# Altium integrated library TI Data Converters Analog to Digital Converter.IntLib: 2197 symbols (part 157 of 168)
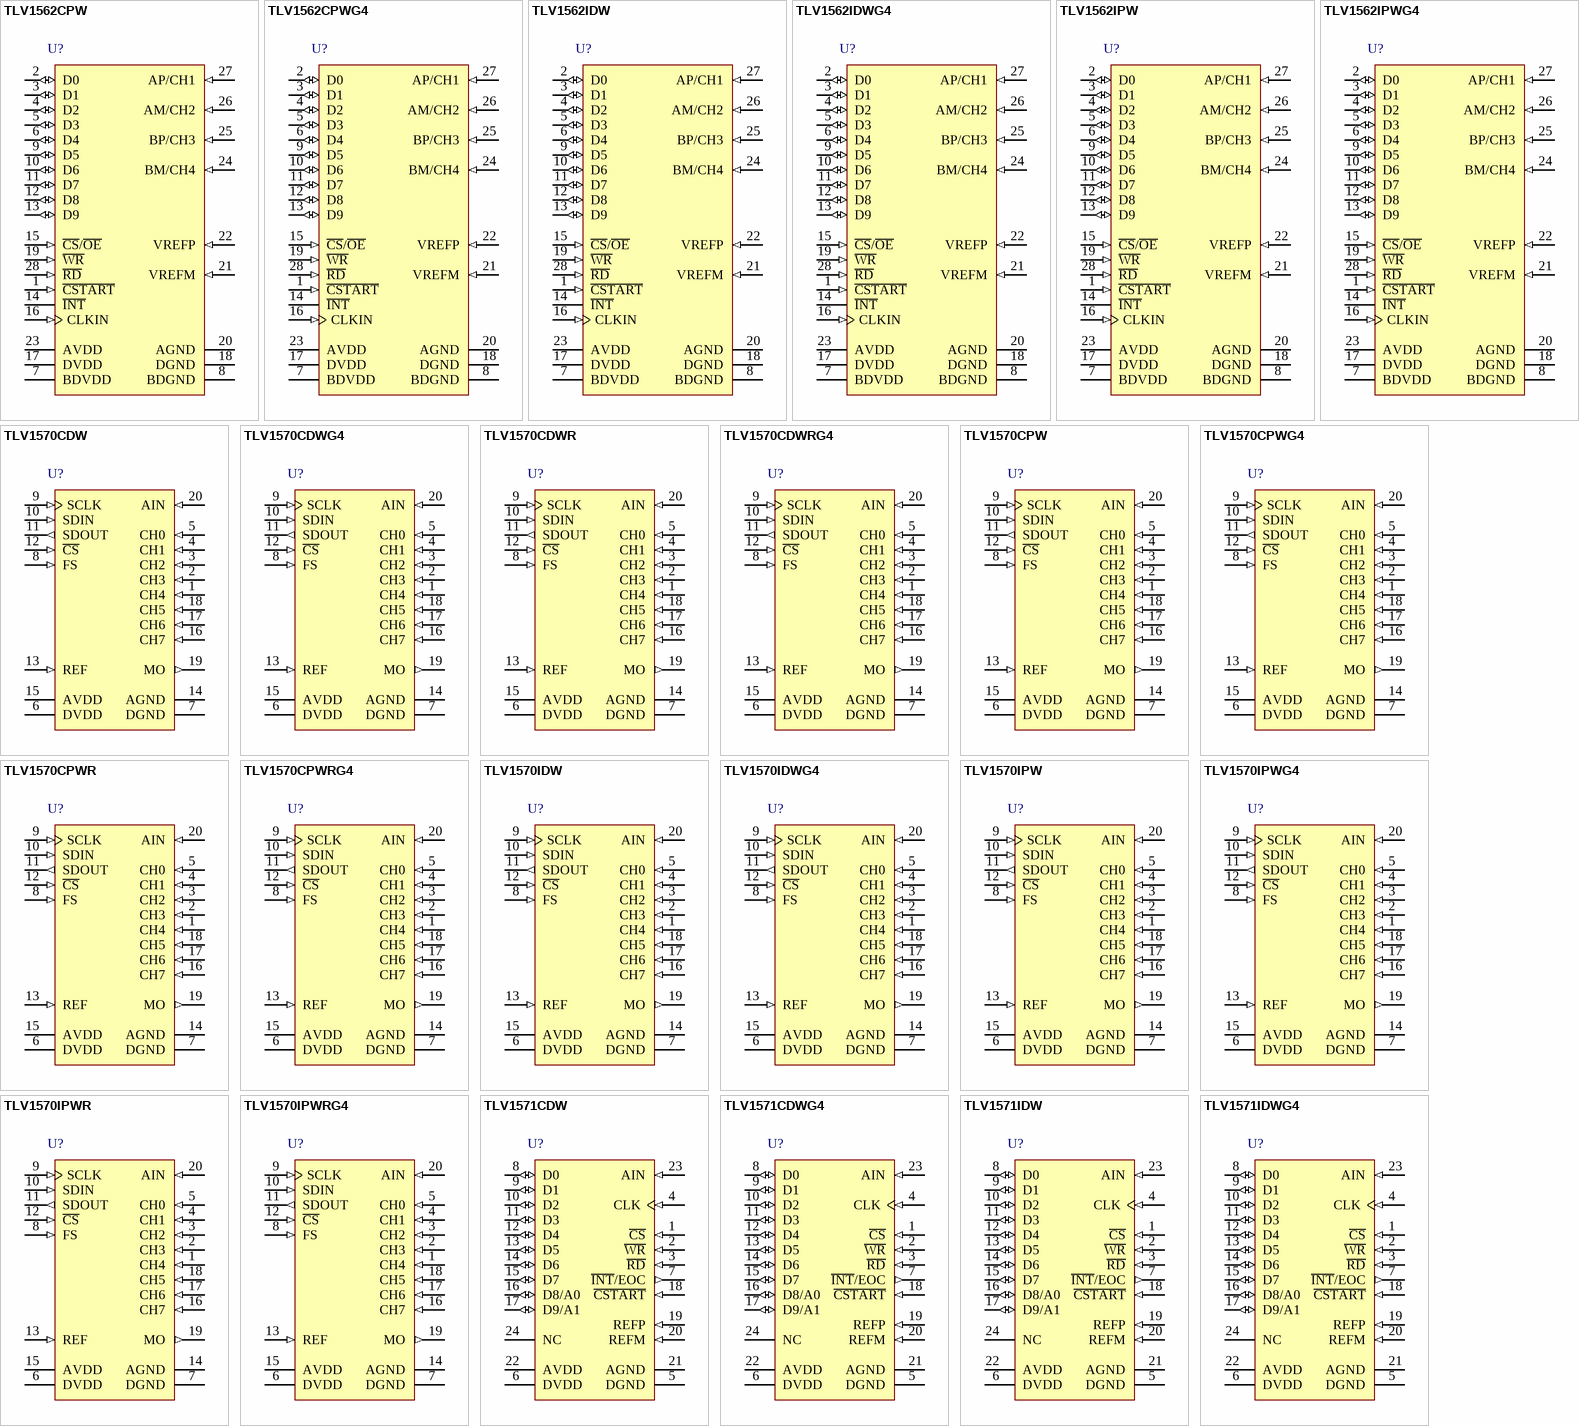
[diagram p282: symbols TLV1562CPW to TLV1571IDWG4]

## TLV1570IPWG4
designator U?
10-Bit, 1.25 MSPS ADC 8-Channel, DSP / (Q)SPI IF, Programmable Internal Reference, Auto or Software Power Down, Very Low Power, -40 to 85 degC, 20-pin SOP (PW20), Green (RoHS & no Sb/Br); Manufacturer: Texas Instruments; PartNumber: TLV1570IPWG4; # Input Channels: 8; Analog Voltage AV/DD(Max)(V): 5.5; Analog Voltage AV/DD(Min)(V): 2.7; Architecture: SAR; ENOB(Bits): 9.3; INL(Max)(+/-LSB): 1; Interface: Serial SPI; Resolution(Bits): 10; Sample Rate (max)(SPS): 1.25M; SFDR(dB): 63; SINAD(dB): 58; SNR(dB): 61; SubFamily: Precision ADC (<=10MSPS); DatasheetVersion: SLAS169B; PackageVersion: 4040064-5/G, 02/2011; PackageReference: PW20; PackageDescription: 20-Pin Plastic Small Outline, Body 6.5 x 4.4 mm, Pitch 0.65 mm; Supplier 1: Digi-Key; Supplier Part Number 1: ADS8332IPWR-ND; Supplier 2: Mouser; Supplier Part Number 2: 595-ADS8332IPWR; Digital Supply(Max)(V): 5.5; Digital Supply(Min)(V): 2.7; Eco-Plan: Green (RoHS & no Sb/Br); Mounting Technology: Surface Mount; Code_JEDEC: MO-153; ComponentLink1Description: Manufacturer URL; ComponentLink1URL: http://www.ti.com/; ComponentLink2Description: Datasheet; ComponentLink2URL: http://www.ti.com/general/docs/lit/getliterature.tsp?genericPartNumber=TLV1570&fileType=pdf; ComponentLink3Description: Package Specification; ComponentLink3URL: http://www.ti.com.cn/cn/lit/ml/mpds362/mpds362.pdf
footprint TI-PW20_N (SOP, 20-Leads, Body 6.5x4.4mm, Pitch 0.65mm, IPC Medium Density)
footprint TI-PW20_L (SOP, 20-Leads, Body 6.5x4.4mm, Pitch 0.65mm, IPC High Density)
footprint TI-PW20_M (SOP, 20-Leads, Body 6.5x4.4mm, Pitch 0.65mm, IPC Low Density)
pins: 1 CH4 (in) "Analog input channels 0 - 7", 2 CH3 (in) "Analog input channels 0 - 7", 3 CH2 (in) "Analog input channels 0 - 7", 4 CH1 (in) "Analog input channels 0 - 7", 5 CH0 (in) "Analog input channels 0 - 7", 6 DVDD (power) "Digital supply voltage, 2.7 V to 5.5 V", 7 DGND (power) "Digital ground", 8 FS (in) "Frame sync. The falling edge of the frame sync pulse from a DSP indicates the start of a serial data frame shifted out of the TLV1570. FS is pulled high when interfaced to a microcontroller.", 9 SCLK (in) "Serial clock input. SCLK synchronizes the serial data transfer and is also used for internal data conversion.", 10 SDIN (in) "Serial data input used to configure the internal control register.", 11 SDOUT (out) "Serial data output. A/D conversion results are output at SDOUT.", 12 ~{CS} (in) "Chip select. A low level signal on C\S\ enables the TLV1570. A high level signal on C\S\ disables the device and disconnects power to the TLV1570.", 13 REF (in) "Reference voltage input. The voltage applied to REF defines the input span of the TLV1570. In external reference mode, a 0.1 uF decoupling capacitor must be placed between the reference and AGND. This is not required for (See Datasheet)", 14 AGND (power) "Analog ground", 15 AVDD (power) "Analog supply voltage, 2.7 V to 5.5 V", 16 CH7 (in) "Analog input channels 0 - 7", 17 CH6 (in) "Analog input channels 0 - 7", 18 CH5 (in) "Analog input channels 0 - 7", 19 MO (out) "On-chip MUX analog output", 20 AIN (in) "ADC analog input"

## TLV1570IPWR
designator U?
10-Bit, 1.25 MSPS ADC 8-Channel, DSP / (Q)SPI IF, Programmable Internal Reference, Auto or Software Power Down, Very Low Power, -40 to 85 degC, 20-pin SOP (PW20), Green (RoHS & no Sb/Br); Manufacturer: Texas Instruments; PartNumber: TLV1570IPWR; # Input Channels: 8; Analog Voltage AV/DD(Max)(V): 5.5; Analog Voltage AV/DD(Min)(V): 2.7; Architecture: SAR; ENOB(Bits): 9.3; INL(Max)(+/-LSB): 1; Interface: Serial SPI; Resolution(Bits): 10; Sample Rate (max)(SPS): 1.25M; SFDR(dB): 63; SINAD(dB): 58; SNR(dB): 61; SubFamily: Precision ADC (<=10MSPS); DatasheetVersion: SLAS169B; PackageVersion: 4040064-5/G, 02/2011; PackageReference: PW20; PackageDescription: 20-Pin Plastic Small Outline, Body 6.5 x 4.4 mm, Pitch 0.65 mm; Supplier 1: Digi-Key; Supplier Part Number 1: ADS8332IRGER-ND; Supplier 2: Newark; Supplier Part Number 2: 63R9797; Supplier 3: Mouser; Supplier Part Number 3: 595-ADS8332IRGER; Digital Supply(Max)(V): 5.5; Digital Supply(Min)(V): 2.7; Eco-Plan: Green (RoHS & no Sb/Br); Mounting Technology: Surface Mount; Code_JEDEC: MO-153; ComponentLink1Description: Manufacturer URL; ComponentLink1URL: http://www.ti.com/; ComponentLink2Description: Datasheet; ComponentLink2URL: http://www.ti.com/general/docs/lit/getliterature.tsp?genericPartNumber=TLV1570&fileType=pdf; ComponentLink3Description: Package Specification; ComponentLink3URL: http://www.ti.com.cn/cn/lit/ml/mpds362/mpds362.pdf
footprint TI-PW20_N (SOP, 20-Leads, Body 6.5x4.4mm, Pitch 0.65mm, IPC Medium Density)
footprint TI-PW20_L (SOP, 20-Leads, Body 6.5x4.4mm, Pitch 0.65mm, IPC High Density)
footprint TI-PW20_M (SOP, 20-Leads, Body 6.5x4.4mm, Pitch 0.65mm, IPC Low Density)
pins: 1 CH4 (in) "Analog input channels 0 - 7", 2 CH3 (in) "Analog input channels 0 - 7", 3 CH2 (in) "Analog input channels 0 - 7", 4 CH1 (in) "Analog input channels 0 - 7", 5 CH0 (in) "Analog input channels 0 - 7", 6 DVDD (power) "Digital supply voltage, 2.7 V to 5.5 V", 7 DGND (power) "Digital ground", 8 FS (in) "Frame sync. The falling edge of the frame sync pulse from a DSP indicates the start of a serial data frame shifted out of the TLV1570. FS is pulled high when interfaced to a microcontroller.", 9 SCLK (in) "Serial clock input. SCLK synchronizes the serial data transfer and is also used for internal data conversion.", 10 SDIN (in) "Serial data input used to configure the internal control register.", 11 SDOUT (out) "Serial data output. A/D conversion results are output at SDOUT.", 12 ~{CS} (in) "Chip select. A low level signal on C\S\ enables the TLV1570. A high level signal on C\S\ disables the device and disconnects power to the TLV1570.", 13 REF (in) "Reference voltage input. The voltage applied to REF defines the input span of the TLV1570. In external reference mode, a 0.1 uF decoupling capacitor must be placed between the reference and AGND. This is not required for (See Datasheet)", 14 AGND (power) "Analog ground", 15 AVDD (power) "Analog supply voltage, 2.7 V to 5.5 V", 16 CH7 (in) "Analog input channels 0 - 7", 17 CH6 (in) "Analog input channels 0 - 7", 18 CH5 (in) "Analog input channels 0 - 7", 19 MO (out) "On-chip MUX analog output", 20 AIN (in) "ADC analog input"

## TLV1570IPWRG4
designator U?
10-Bit, 1.25 MSPS ADC 8-Channel, DSP / (Q)SPI IF, Programmable Internal Reference, Auto or Software Power Down, Very Low Power, -40 to 85 degC, 20-pin SOP (PW20), Green (RoHS & no Sb/Br); Manufacturer: Texas Instruments; PartNumber: TLV1570IPWRG4; # Input Channels: 8; Analog Voltage AV/DD(Max)(V): 5.5; Analog Voltage AV/DD(Min)(V): 2.7; Architecture: SAR; ENOB(Bits): 9.3; INL(Max)(+/-LSB): 1; Interface: Serial SPI; Resolution(Bits): 10; Sample Rate (max)(SPS): 1.25M; SFDR(dB): 63; SINAD(dB): 58; SNR(dB): 61; SubFamily: Precision ADC (<=10MSPS); DatasheetVersion: SLAS169B; PackageVersion: 4040064-5/G, 02/2011; PackageReference: PW20; PackageDescription: 20-Pin Plastic Small Outline, Body 6.5 x 4.4 mm, Pitch 0.65 mm; Supplier 1: Digi-Key; Supplier Part Number 1: 296-25652-2-ND; Supplier 2: Digi-Key; Supplier Part Number 2: 296-25652-1-ND; Supplier 3: Digi-Key; Supplier Part Number 3: 296-25652-6-ND; Supplier 4: Newark; Supplier Part Number 4: 63R9798; Supplier 5: Mouser; Supplier Part Number 5: 595-ADS8332IRGET; Digital Supply(Max)(V): 5.5; Digital Supply(Min)(V): 2.7; Eco-Plan: Green (RoHS & no Sb/Br); Mounting Technology: Surface Mount; Code_JEDEC: MO-153; ComponentLink1Description: Manufacturer URL; ComponentLink1URL: http://www.ti.com/; ComponentLink2Description: Datasheet; ComponentLink2URL: http://www.ti.com/general/docs/lit/getliterature.tsp?genericPartNumber=TLV1570&fileType=pdf; ComponentLink3Description: Package Specification; ComponentLink3URL: http://www.ti.com.cn/cn/lit/ml/mpds362/mpds362.pdf
footprint TI-PW20_N (SOP, 20-Leads, Body 6.5x4.4mm, Pitch 0.65mm, IPC Medium Density)
footprint TI-PW20_L (SOP, 20-Leads, Body 6.5x4.4mm, Pitch 0.65mm, IPC High Density)
footprint TI-PW20_M (SOP, 20-Leads, Body 6.5x4.4mm, Pitch 0.65mm, IPC Low Density)
pins: 1 CH4 (in) "Analog input channels 0 - 7", 2 CH3 (in) "Analog input channels 0 - 7", 3 CH2 (in) "Analog input channels 0 - 7", 4 CH1 (in) "Analog input channels 0 - 7", 5 CH0 (in) "Analog input channels 0 - 7", 6 DVDD (power) "Digital supply voltage, 2.7 V to 5.5 V", 7 DGND (power) "Digital ground", 8 FS (in) "Frame sync. The falling edge of the frame sync pulse from a DSP indicates the start of a serial data frame shifted out of the TLV1570. FS is pulled high when interfaced to a microcontroller.", 9 SCLK (in) "Serial clock input. SCLK synchronizes the serial data transfer and is also used for internal data conversion.", 10 SDIN (in) "Serial data input used to configure the internal control register.", 11 SDOUT (out) "Serial data output. A/D conversion results are output at SDOUT.", 12 ~{CS} (in) "Chip select. A low level signal on C\S\ enables the TLV1570. A high level signal on C\S\ disables the device and disconnects power to the TLV1570.", 13 REF (in) "Reference voltage input. The voltage applied to REF defines the input span of the TLV1570. In external reference mode, a 0.1 uF decoupling capacitor must be placed between the reference and AGND. This is not required for (See Datasheet)", 14 AGND (power) "Analog ground", 15 AVDD (power) "Analog supply voltage, 2.7 V to 5.5 V", 16 CH7 (in) "Analog input channels 0 - 7", 17 CH6 (in) "Analog input channels 0 - 7", 18 CH5 (in) "Analog input channels 0 - 7", 19 MO (out) "On-chip MUX analog output", 20 AIN (in) "ADC analog input"

## TLV1571CDW
designator U?
1-Channel 10-Bit 1.25 MSPS ADC, 8-Channel Input Multiplexer, 0 to 70 degC, 24-pin SOIC (DW24), Green (RoHS & no Sb/Br); Manufacturer: Texas Instruments; PartNumber: TLV1571CDW; # Input Channels: 1; Analog Voltage AV/DD(Max)(V): 5.5; Analog Voltage AV/DD(Min)(V): 2.7; Architecture: SAR; ENOB(Bits): 9.3; Interface: Parallel CMOS; Resolution(Bits): 10; Sample Rate (max)(SPS): 1.25M; SFDR(dB): 63; SINAD(dB): 60; SubFamily: Precision ADC (<=10MSPS); DatasheetVersion: SLAS170D; PackageVersion: 4040000-5/G, 01/2011; PackageReference: DW24; PackageDescription: 24-Pin Plastic Small Outline, Body 15.4 x 7.5 mm, Pitch 1.27 mm; Supplier 1: Digi-Key; Supplier Part Number 1: 296-25632-2-ND; Supplier 2: Digi-Key; Supplier Part Number 2: 296-25632-1-ND; Supplier 3: Digi-Key; Supplier Part Number 3: 296-25632-6-ND; Supplier 4: Newark; Supplier Part Number 4: 63R9774; Supplier 5: Mouser; Supplier Part Number 5: 595-ADS1258IPHPREP; Digital Supply(Max)(V): 5.5; Digital Supply(Min)(V): 2.7; Eco-Plan: Green (RoHS & no Sb/Br); INL(Max)(+/-LSB): 1; SNR(dB): 60; Mounting Technology: Surface Mount; Code_JEDEC: MS-013; ComponentLink1Description: Manufacturer URL; ComponentLink1URL: http://www.ti.com/; ComponentLink2Description: Datasheet; ComponentLink2URL: http://www.ti.com/general/docs/lit/getliterature.tsp?genericPartNumber=TLV1571&fileType=pdf; ComponentLink3Description: Package Specification; ComponentLink3URL: http://www.ti.com/litv/pdf/mpds174a
footprint TI-DW24_N (SOIC, 24-Leads, Body 15.4x7.5mm, Pitch 1.27mm, IPC Medium Density)
footprint TI-DW24_L (SOIC, 24-Leads, Body 15.4x7.5mm, Pitch 1.27mm, IPC High Density)
footprint TI-DW24_M (SOIC, 24-Leads, Body 15.4x7.5mm, Pitch 1.27mm, IPC Low Density)
pins: 1 ~{CS} (in) "Chip select. A logic low on C\S\ enables the TLV1571/TLV1578.", 2 ~{WR} (in) "Write data. A rising edge on the W\R\ latches in configuration data when C\S\ is low. When using software conversion start, a rising edge on W\R\ also initiates an internal sampling start pulse. When W\R\ is tied to ground, (See Datasheet)", 3 ~{RD} (in) "Read data. A falling edge on R\D\ enables a read operation on the data bus when C\S\ is low.", 4 CLK (in) "External clock input", 5 DGND (power) "Digital ground", 6 DVDD (power) "Digital supply voltage, 2.7 V to 5.5 V", 7 ~{INT}/EOC (out) "End-of-conversion/interrupt", 8 D0 (io) "Bidirectional 3-state data bus", 9 D1 (io) "Bidirectional 3-state data bus", 10 D2 (io) "Bidirectional 3-state data bus", 11 D3 (io) "Bidirectional 3-state data bus", 12 D4 (io) "Bidirectional 3-state data bus", 13 D5 (io) "Bidirectional 3-state data bus", 14 D6 (io) "Bidirectional 3-state data bus", 15 D7 (io) "Bidirectional 3-state data bus", 16 D8/A0 (io) "Bidirectional 3-state data bus. D8/A0 along with D9/A1 is used as address lines to access CR0 and CR1 for initialization.", 17 D9/A1 (io) "Bidirectional 3-state data bus. D9/A1 along with D8/A0 is used as address lines to access CR0 and CR1 for initialization.", 18 ~{CSTART} (in) "Hardware sample and conversion start input. The falling edge of C\S\T\A\R\T\ starts sampling and the rising edge of C\S\T\A\R\T\ starts conversion.", 19 REFP (in) "Upper reference voltage (nominally AVDD). The maximum input voltage range is determined by the difference between the voltage applied to REFP and REFM.", 20 REFM (in) "Lower reference voltage (nominally ground). REFM must be supplied or REFM pin must be grounded.", 21 AGND (power) "Analog ground", 22 AVDD (power) "Analog supply voltage, 2.7 V to 5.5 V", 23 AIN (in) "ADC analog input (used as single analog input channel for TLV1571)", 24 NC "Not connected"

## TLV1571CDWG4
designator U?
1-Channel 10-Bit 1.25 MSPS ADC, 8-Channel Input Multiplexer, 0 to 70 degC, 24-pin SOIC (DW24), Green (RoHS & no Sb/Br); Manufacturer: Texas Instruments; PartNumber: TLV1571CDWG4; # Input Channels: 1; Analog Voltage AV/DD(Max)(V): 5.5; Analog Voltage AV/DD(Min)(V): 2.7; Architecture: SAR; ENOB(Bits): 9.3; Interface: Parallel CMOS; Resolution(Bits): 10; Sample Rate (max)(SPS): 1.25M; SFDR(dB): 63; SINAD(dB): 60; SubFamily: Precision ADC (<=10MSPS); DatasheetVersion: SLAS170D; PackageVersion: 4040000-5/G, 01/2011; PackageReference: DW24; PackageDescription: 24-Pin Plastic Small Outline, Body 15.4 x 7.5 mm, Pitch 1.27 mm; Supplier 1: Digi-Key; Supplier Part Number 1: ADS1258IPHPREPG4-ND; Supplier 2: Mouser; Supplier Part Number 2: 595-ADS1258IPHPREPG4; Digital Supply(Max)(V): 5.5; Digital Supply(Min)(V): 2.7; Eco-Plan: Green (RoHS & no Sb/Br); INL(Max)(+/-LSB): 1; SNR(dB): 60; Mounting Technology: Surface Mount; Code_JEDEC: MS-013; ComponentLink1Description: Manufacturer URL; ComponentLink1URL: http://www.ti.com/; ComponentLink2Description: Datasheet; ComponentLink2URL: http://www.ti.com/general/docs/lit/getliterature.tsp?genericPartNumber=TLV1571&fileType=pdf; ComponentLink3Description: Package Specification; ComponentLink3URL: http://www.ti.com/litv/pdf/mpds174a
footprint TI-DW24_N (SOIC, 24-Leads, Body 15.4x7.5mm, Pitch 1.27mm, IPC Medium Density)
footprint TI-DW24_L (SOIC, 24-Leads, Body 15.4x7.5mm, Pitch 1.27mm, IPC High Density)
footprint TI-DW24_M (SOIC, 24-Leads, Body 15.4x7.5mm, Pitch 1.27mm, IPC Low Density)
pins: 1 ~{CS} (in) "Chip select. A logic low on C\S\ enables the TLV1571/TLV1578.", 2 ~{WR} (in) "Write data. A rising edge on the W\R\ latches in configuration data when C\S\ is low. When using software conversion start, a rising edge on W\R\ also initiates an internal sampling start pulse. When W\R\ is tied to ground, (See Datasheet)", 3 ~{RD} (in) "Read data. A falling edge on R\D\ enables a read operation on the data bus when C\S\ is low.", 4 CLK (in) "External clock input", 5 DGND (power) "Digital ground", 6 DVDD (power) "Digital supply voltage, 2.7 V to 5.5 V", 7 ~{INT}/EOC (out) "End-of-conversion/interrupt", 8 D0 (io) "Bidirectional 3-state data bus", 9 D1 (io) "Bidirectional 3-state data bus", 10 D2 (io) "Bidirectional 3-state data bus", 11 D3 (io) "Bidirectional 3-state data bus", 12 D4 (io) "Bidirectional 3-state data bus", 13 D5 (io) "Bidirectional 3-state data bus", 14 D6 (io) "Bidirectional 3-state data bus", 15 D7 (io) "Bidirectional 3-state data bus", 16 D8/A0 (io) "Bidirectional 3-state data bus. D8/A0 along with D9/A1 is used as address lines to access CR0 and CR1 for initialization.", 17 D9/A1 (io) "Bidirectional 3-state data bus. D9/A1 along with D8/A0 is used as address lines to access CR0 and CR1 for initialization.", 18 ~{CSTART} (in) "Hardware sample and conversion start input. The falling edge of C\S\T\A\R\T\ starts sampling and the rising edge of C\S\T\A\R\T\ starts conversion.", 19 REFP (in) "Upper reference voltage (nominally AVDD). The maximum input voltage range is determined by the difference between the voltage applied to REFP and REFM.", 20 REFM (in) "Lower reference voltage (nominally ground). REFM must be supplied or REFM pin must be grounded.", 21 AGND (power) "Analog ground", 22 AVDD (power) "Analog supply voltage, 2.7 V to 5.5 V", 23 AIN (in) "ADC analog input (used as single analog input channel for TLV1571)", 24 NC "Not connected"

## TLV1571IDW
designator U?
1-Channel 10-Bit 1.25 MSPS ADC, 8-Channel Input Multiplexer, -40 to 85 degC, 24-pin SOIC (DW24), Green (RoHS & no Sb/Br); Manufacturer: Texas Instruments; PartNumber: TLV1571IDW; # Input Channels: 1; Analog Voltage AV/DD(Max)(V): 5.5; Analog Voltage AV/DD(Min)(V): 2.7; Architecture: SAR; ENOB(Bits): 9.3; Interface: Parallel CMOS; Resolution(Bits): 10; Sample Rate (max)(SPS): 1.25M; SFDR(dB): 63; SINAD(dB): 60; SubFamily: Precision ADC (<=10MSPS); DatasheetVersion: SLAS170D; PackageVersion: 4040000-5/G, 01/2011; PackageReference: DW24; PackageDescription: 24-Pin Plastic Small Outline, Body 15.4 x 7.5 mm, Pitch 1.27 mm; Supplier 1: Digi-Key; Supplier Part Number 1: 296-25633-2-ND; Supplier 2: Digi-Key; Supplier Part Number 2: 296-25633-1-ND; Supplier 3: Digi-Key; Supplier Part Number 3: 296-25633-6-ND; Supplier 4: Mouser; Supplier Part Number 4: 595-ADS1258MPHPTEP; Digital Supply(Max)(V): 5.5; Digital Supply(Min)(V): 2.7; Eco-Plan: Green (RoHS & no Sb/Br); INL(Max)(+/-LSB): 1; SNR(dB): 60; Mounting Technology: Surface Mount; Code_JEDEC: MS-013; ComponentLink1Description: Manufacturer URL; ComponentLink1URL: http://www.ti.com/; ComponentLink2Description: Datasheet; ComponentLink2URL: http://www.ti.com/general/docs/lit/getliterature.tsp?genericPartNumber=TLV1571&fileType=pdf; ComponentLink3Description: Package Specification; ComponentLink3URL: http://www.ti.com/litv/pdf/mpds174a
footprint TI-DW24_N (SOIC, 24-Leads, Body 15.4x7.5mm, Pitch 1.27mm, IPC Medium Density)
footprint TI-DW24_L (SOIC, 24-Leads, Body 15.4x7.5mm, Pitch 1.27mm, IPC High Density)
footprint TI-DW24_M (SOIC, 24-Leads, Body 15.4x7.5mm, Pitch 1.27mm, IPC Low Density)
pins: 1 ~{CS} (in) "Chip select. A logic low on C\S\ enables the TLV1571/TLV1578.", 2 ~{WR} (in) "Write data. A rising edge on the W\R\ latches in configuration data when C\S\ is low. When using software conversion start, a rising edge on W\R\ also initiates an internal sampling start pulse. When W\R\ is tied to ground, (See Datasheet)", 3 ~{RD} (in) "Read data. A falling edge on R\D\ enables a read operation on the data bus when C\S\ is low.", 4 CLK (in) "External clock input", 5 DGND (power) "Digital ground", 6 DVDD (power) "Digital supply voltage, 2.7 V to 5.5 V", 7 ~{INT}/EOC (out) "End-of-conversion/interrupt", 8 D0 (io) "Bidirectional 3-state data bus", 9 D1 (io) "Bidirectional 3-state data bus", 10 D2 (io) "Bidirectional 3-state data bus", 11 D3 (io) "Bidirectional 3-state data bus", 12 D4 (io) "Bidirectional 3-state data bus", 13 D5 (io) "Bidirectional 3-state data bus", 14 D6 (io) "Bidirectional 3-state data bus", 15 D7 (io) "Bidirectional 3-state data bus", 16 D8/A0 (io) "Bidirectional 3-state data bus. D8/A0 along with D9/A1 is used as address lines to access CR0 and CR1 for initialization.", 17 D9/A1 (io) "Bidirectional 3-state data bus. D9/A1 along with D8/A0 is used as address lines to access CR0 and CR1 for initialization.", 18 ~{CSTART} (in) "Hardware sample and conversion start input. The falling edge of C\S\T\A\R\T\ starts sampling and the rising edge of C\S\T\A\R\T\ starts conversion.", 19 REFP (in) "Upper reference voltage (nominally AVDD). The maximum input voltage range is determined by the difference between the voltage applied to REFP and REFM.", 20 REFM (in) "Lower reference voltage (nominally ground). REFM must be supplied or REFM pin must be grounded.", 21 AGND (power) "Analog ground", 22 AVDD (power) "Analog supply voltage, 2.7 V to 5.5 V", 23 AIN (in) "ADC analog input (used as single analog input channel for TLV1571)", 24 NC "Not connected"

## TLV1571IDWG4
designator U?
1-Channel 10-Bit 1.25 MSPS ADC, 8-Channel Input Multiplexer, -40 to 85 degC, 24-pin SOIC (DW24), Green (RoHS & no Sb/Br); Manufacturer: Texas Instruments; PartNumber: TLV1571IDWG4; # Input Channels: 1; Analog Voltage AV/DD(Max)(V): 5.5; Analog Voltage AV/DD(Min)(V): 2.7; Architecture: SAR; ENOB(Bits): 9.3; Interface: Parallel CMOS; Resolution(Bits): 10; Sample Rate (max)(SPS): 1.25M; SFDR(dB): 63; SINAD(dB): 60; SubFamily: Precision ADC (<=10MSPS); DatasheetVersion: SLAS170D; PackageVersion: 4040000-5/G, 01/2011; PackageReference: DW24; PackageDescription: 24-Pin Plastic Small Outline, Body 15.4 x 7.5 mm, Pitch 1.27 mm; Supplier 1: Digi-Key; Supplier Part Number 1: ADS1258MPHPTEPG4-ND; Supplier 2: Mouser; Supplier Part Number 2: 595-ADS1258MPHPTEPG4; Digital Supply(Max)(V): 5.5; Digital Supply(Min)(V): 2.7; Eco-Plan: Green (RoHS & no Sb/Br); INL(Max)(+/-LSB): 1; SNR(dB): 60; Mounting Technology: Surface Mount; Code_JEDEC: MS-013; ComponentLink1Description: Manufacturer URL; ComponentLink1URL: http://www.ti.com/; ComponentLink2Description: Datasheet; ComponentLink2URL: http://www.ti.com/general/docs/lit/getliterature.tsp?genericPartNumber=TLV1571&fileType=pdf; ComponentLink3Description: Package Specification; ComponentLink3URL: http://www.ti.com/litv/pdf/mpds174a
footprint TI-DW24_N (SOIC, 24-Leads, Body 15.4x7.5mm, Pitch 1.27mm, IPC Medium Density)
footprint TI-DW24_L (SOIC, 24-Leads, Body 15.4x7.5mm, Pitch 1.27mm, IPC High Density)
footprint TI-DW24_M (SOIC, 24-Leads, Body 15.4x7.5mm, Pitch 1.27mm, IPC Low Density)
pins: 1 ~{CS} (in) "Chip select. A logic low on C\S\ enables the TLV1571/TLV1578.", 2 ~{WR} (in) "Write data. A rising edge on the W\R\ latches in configuration data when C\S\ is low. When using software conversion start, a rising edge on W\R\ also initiates an internal sampling start pulse. When W\R\ is tied to ground, (See Datasheet)", 3 ~{RD} (in) "Read data. A falling edge on R\D\ enables a read operation on the data bus when C\S\ is low.", 4 CLK (in) "External clock input", 5 DGND (power) "Digital ground", 6 DVDD (power) "Digital supply voltage, 2.7 V to 5.5 V", 7 ~{INT}/EOC (out) "End-of-conversion/interrupt", 8 D0 (io) "Bidirectional 3-state data bus", 9 D1 (io) "Bidirectional 3-state data bus", 10 D2 (io) "Bidirectional 3-state data bus", 11 D3 (io) "Bidirectional 3-state data bus", 12 D4 (io) "Bidirectional 3-state data bus", 13 D5 (io) "Bidirectional 3-state data bus", 14 D6 (io) "Bidirectional 3-state data bus", 15 D7 (io) "Bidirectional 3-state data bus", 16 D8/A0 (io) "Bidirectional 3-state data bus. D8/A0 along with D9/A1 is used as address lines to access CR0 and CR1 for initialization.", 17 D9/A1 (io) "Bidirectional 3-state data bus. D9/A1 along with D8/A0 is used as address lines to access CR0 and CR1 for initialization.", 18 ~{CSTART} (in) "Hardware sample and conversion start input. The falling edge of C\S\T\A\R\T\ starts sampling and the rising edge of C\S\T\A\R\T\ starts conversion.", 19 REFP (in) "Upper reference voltage (nominally AVDD). The maximum input voltage range is determined by the difference between the voltage applied to REFP and REFM.", 20 REFM (in) "Lower reference voltage (nominally ground). REFM must be supplied or REFM pin must be grounded.", 21 AGND (power) "Analog ground", 22 AVDD (power) "Analog supply voltage, 2.7 V to 5.5 V", 23 AIN (in) "ADC analog input (used as single analog input channel for TLV1571)", 24 NC "Not connected"

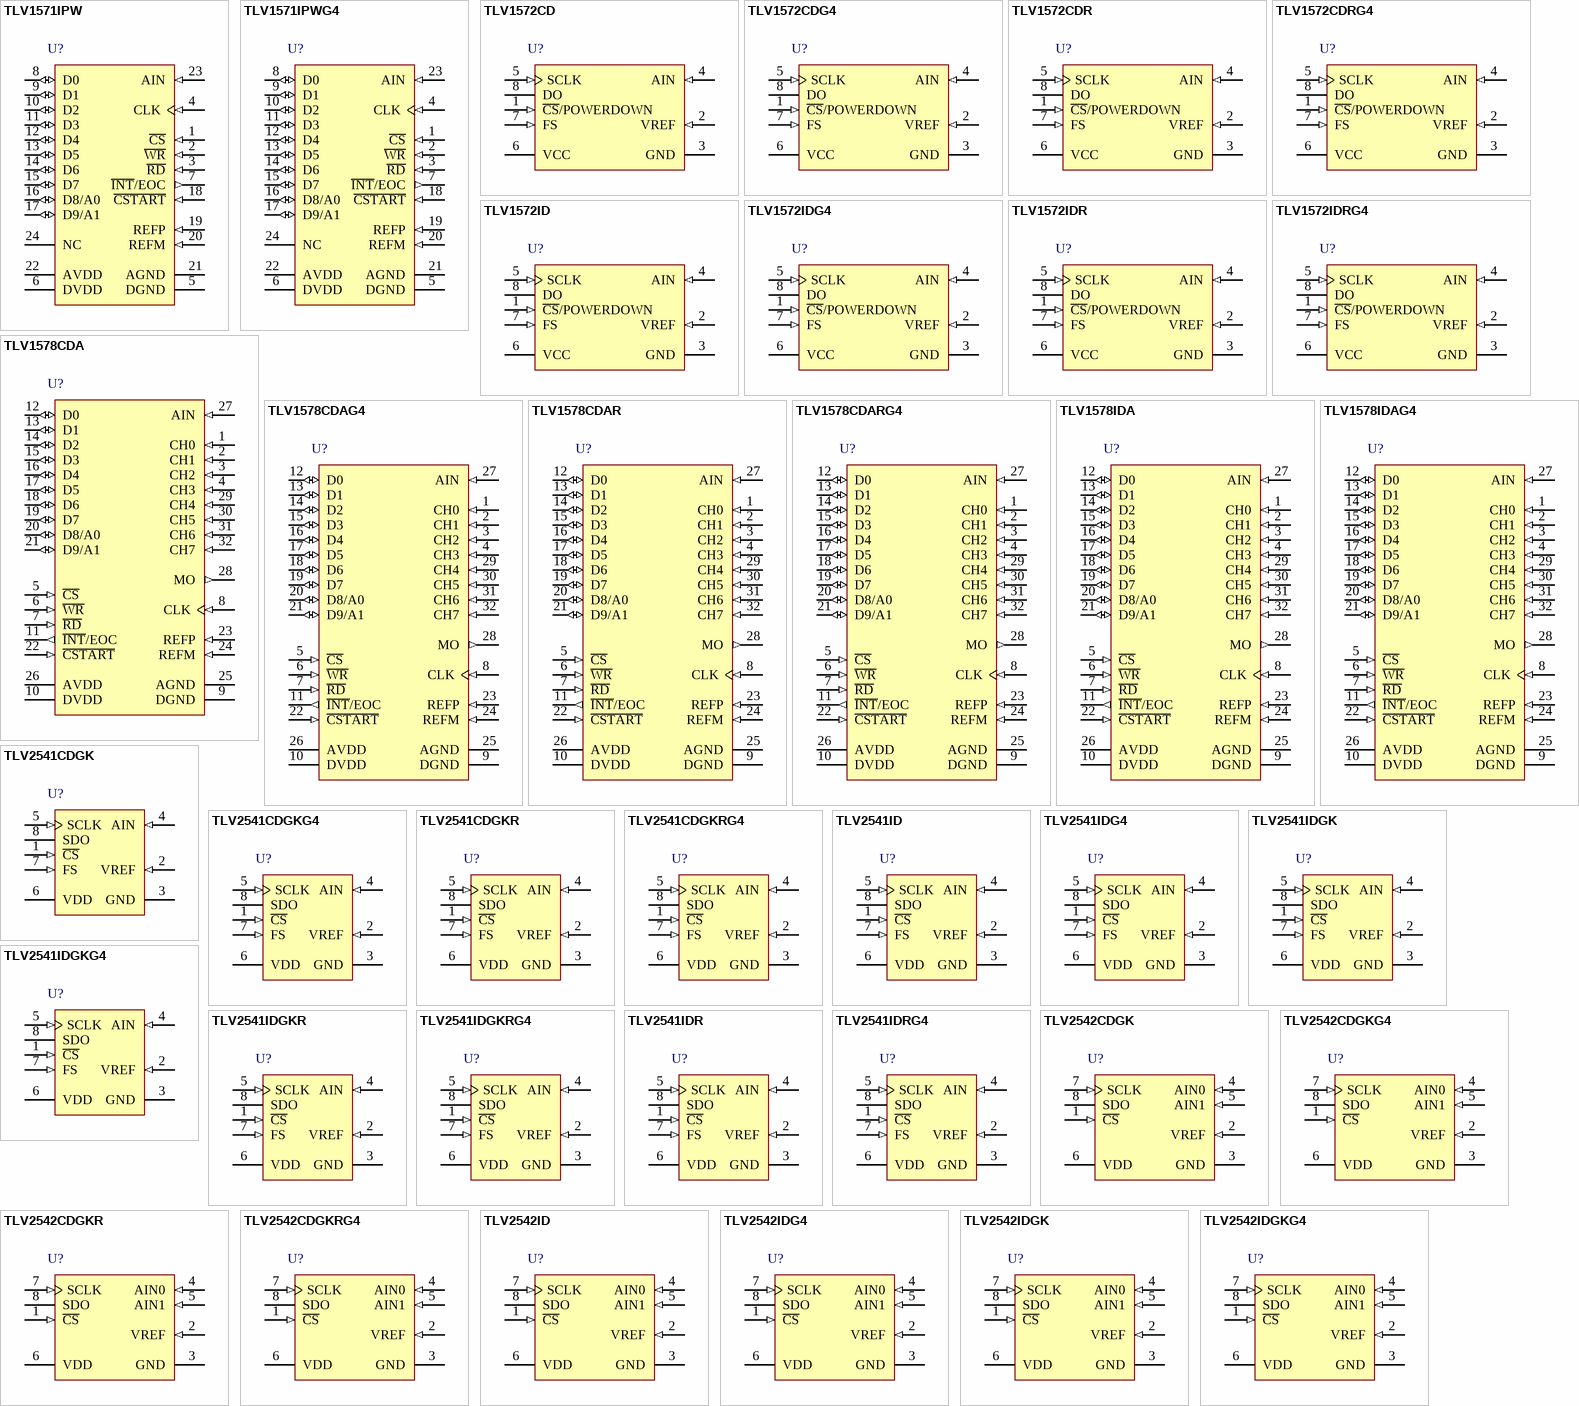
[diagram p121: symbols TLV1571IPW to TLV2542IDGKG4]

## TLV1571IPW
designator U?
1-Channel 10-Bit 1.25 MSPS ADC, 8-Channel Input Multiplexer, -40 to 85 degC, 24-pin SOP (PW24), Green (RoHS & no Sb/Br); Manufacturer: Texas Instruments; PartNumber: TLV1571IPW; # Input Channels: 1; Analog Voltage AV/DD(Max)(V): 5.5; Analog Voltage AV/DD(Min)(V): 2.7; Architecture: SAR; ENOB(Bits): 9.3; Interface: Parallel CMOS; Resolution(Bits): 10; Sample Rate (max)(SPS): 1.25M; SFDR(dB): 63; SINAD(dB): 60; SubFamily: Precision ADC (<=10MSPS); DatasheetVersion: SLAS170D; PackageVersion: 4040064-6/G, 02/2011; PackageReference: PW24; PackageDescription: 24-Pin Plastic Small Outline, Body 7.8 x 4.4 mm, Pitch 0.65 mm; Supplier 1: Digi-Key; Supplier Part Number 1: 296-24278-2-ND; Supplier 2: Digi-Key; Supplier Part Number 2: 296-24278-1-ND; Supplier 3: Digi-Key; Supplier Part Number 3: 296-24278-6-ND; Supplier 4: Mouser; Supplier Part Number 4: 595-ADS1258MRTCTEP; Digital Supply(Max)(V): 5.5; Digital Supply(Min)(V): 2.7; Eco-Plan: Green (RoHS & no Sb/Br); INL(Max)(+/-LSB): 1; SNR(dB): 60; Mounting Technology: Surface Mount; Code_JEDEC: MO-153; ComponentLink1Description: Manufacturer URL; ComponentLink1URL: http://www.ti.com/; ComponentLink2Description: Datasheet; ComponentLink2URL: http://www.ti.com/general/docs/lit/getliterature.tsp?genericPartNumber=TLV1571&fileType=pdf; ComponentLink3Description: Package Specification; ComponentLink3URL: http://www.ti.com/litv/pdf/mpds363
footprint TI-PW24_N (SOP, 24-Leads, Body 7.8x4.4mm, Pitch 0.65mm, IPC Medium Density)
footprint TI-PW24_L (SOP, 24-Leads, Body 7.8x4.4mm, Pitch 0.65mm, IPC High Density)
footprint TI-PW24_M (SOP, 24-Leads, Body 7.8x4.4mm, Pitch 0.65mm, IPC Low Density)
pins: 1 ~{CS} (in) "Chip select. A logic low on C\S\ enables the TLV1571/TLV1578.", 2 ~{WR} (in) "Write data. A rising edge on the W\R\ latches in configuration data when C\S\ is low. When using software conversion start, a rising edge on W\R\ also initiates an internal sampling start pulse. When W\R\ is tied to ground, (See Datasheet)", 3 ~{RD} (in) "Read data. A falling edge on R\D\ enables a read operation on the data bus when C\S\ is low.", 4 CLK (in) "External clock input", 5 DGND (power) "Digital ground", 6 DVDD (power) "Digital supply voltage, 2.7 V to 5.5 V", 7 ~{INT}/EOC (out) "End-of-conversion/interrupt", 8 D0 (io) "Bidirectional 3-state data bus", 9 D1 (io) "Bidirectional 3-state data bus", 10 D2 (io) "Bidirectional 3-state data bus", 11 D3 (io) "Bidirectional 3-state data bus", 12 D4 (io) "Bidirectional 3-state data bus", 13 D5 (io) "Bidirectional 3-state data bus", 14 D6 (io) "Bidirectional 3-state data bus", 15 D7 (io) "Bidirectional 3-state data bus", 16 D8/A0 (io) "Bidirectional 3-state data bus. D8/A0 along with D9/A1 is used as address lines to access CR0 and CR1 for initialization.", 17 D9/A1 (io) "Bidirectional 3-state data bus. D9/A1 along with D8/A0 is used as address lines to access CR0 and CR1 for initialization.", 18 ~{CSTART} (in) "Hardware sample and conversion start input. The falling edge of C\S\T\A\R\T\ starts sampling and the rising edge of C\S\T\A\R\T\ starts conversion.", 19 REFP (in) "Upper reference voltage (nominally AVDD). The maximum input voltage range is determined by the difference between the voltage applied to REFP and REFM.", 20 REFM (in) "Lower reference voltage (nominally ground). REFM must be supplied or REFM pin must be grounded.", 21 AGND (power) "Analog ground", 22 AVDD (power) "Analog supply voltage, 2.7 V to 5.5 V", 23 AIN (in) "ADC analog input (used as single analog input channel for TLV1571)", 24 NC "Not connected"

## TLV1571IPWG4
designator U?
1-Channel 10-Bit 1.25 MSPS ADC, 8-Channel Input Multiplexer, -40 to 85 degC, 24-pin SOP (PW24), Green (RoHS & no Sb/Br); Manufacturer: Texas Instruments; PartNumber: TLV1571IPWG4; # Input Channels: 1; Analog Voltage AV/DD(Max)(V): 5.5; Analog Voltage AV/DD(Min)(V): 2.7; Architecture: SAR; ENOB(Bits): 9.3; Interface: Parallel CMOS; Resolution(Bits): 10; Sample Rate (max)(SPS): 1.25M; SFDR(dB): 63; SINAD(dB): 60; SubFamily: Precision ADC (<=10MSPS); DatasheetVersion: SLAS170D; PackageVersion: 4040064-6/G, 02/2011; PackageReference: PW24; PackageDescription: 24-Pin Plastic Small Outline, Body 7.8 x 4.4 mm, Pitch 0.65 mm; Supplier 1: Mouser; Supplier Part Number 1: 595-V62/09626-01XE; Digital Supply(Max)(V): 5.5; Digital Supply(Min)(V): 2.7; Eco-Plan: Green (RoHS & no Sb/Br); INL(Max)(+/-LSB): 1; SNR(dB): 60; Mounting Technology: Surface Mount; Code_JEDEC: MO-153; ComponentLink1Description: Manufacturer URL; ComponentLink1URL: http://www.ti.com/; ComponentLink2Description: Datasheet; ComponentLink2URL: http://www.ti.com/general/docs/lit/getliterature.tsp?genericPartNumber=TLV1571&fileType=pdf; ComponentLink3Description: Package Specification; ComponentLink3URL: http://www.ti.com/litv/pdf/mpds363
footprint TI-PW24_N (SOP, 24-Leads, Body 7.8x4.4mm, Pitch 0.65mm, IPC Medium Density)
footprint TI-PW24_L (SOP, 24-Leads, Body 7.8x4.4mm, Pitch 0.65mm, IPC High Density)
footprint TI-PW24_M (SOP, 24-Leads, Body 7.8x4.4mm, Pitch 0.65mm, IPC Low Density)
pins: 1 ~{CS} (in) "Chip select. A logic low on C\S\ enables the TLV1571/TLV1578.", 2 ~{WR} (in) "Write data. A rising edge on the W\R\ latches in configuration data when C\S\ is low. When using software conversion start, a rising edge on W\R\ also initiates an internal sampling start pulse. When W\R\ is tied to ground, (See Datasheet)", 3 ~{RD} (in) "Read data. A falling edge on R\D\ enables a read operation on the data bus when C\S\ is low.", 4 CLK (in) "External clock input", 5 DGND (power) "Digital ground", 6 DVDD (power) "Digital supply voltage, 2.7 V to 5.5 V", 7 ~{INT}/EOC (out) "End-of-conversion/interrupt", 8 D0 (io) "Bidirectional 3-state data bus", 9 D1 (io) "Bidirectional 3-state data bus", 10 D2 (io) "Bidirectional 3-state data bus", 11 D3 (io) "Bidirectional 3-state data bus", 12 D4 (io) "Bidirectional 3-state data bus", 13 D5 (io) "Bidirectional 3-state data bus", 14 D6 (io) "Bidirectional 3-state data bus", 15 D7 (io) "Bidirectional 3-state data bus", 16 D8/A0 (io) "Bidirectional 3-state data bus. D8/A0 along with D9/A1 is used as address lines to access CR0 and CR1 for initialization.", 17 D9/A1 (io) "Bidirectional 3-state data bus. D9/A1 along with D8/A0 is used as address lines to access CR0 and CR1 for initialization.", 18 ~{CSTART} (in) "Hardware sample and conversion start input. The falling edge of C\S\T\A\R\T\ starts sampling and the rising edge of C\S\T\A\R\T\ starts conversion.", 19 REFP (in) "Upper reference voltage (nominally AVDD). The maximum input voltage range is determined by the difference between the voltage applied to REFP and REFM.", 20 REFM (in) "Lower reference voltage (nominally ground). REFM must be supplied or REFM pin must be grounded.", 21 AGND (power) "Analog ground", 22 AVDD (power) "Analog supply voltage, 2.7 V to 5.5 V", 23 AIN (in) "ADC analog input (used as single analog input channel for TLV1571)", 24 NC "Not connected"

## TLV1572CD
designator U?
10-Bit, 1.25 MSPS ADC Single Channel, DSP / (Q)SPI IF, S&H, Very Low Power, Auto Power Down, 0 to 70 degC, 8-pin SOIC (D8), Green (RoHS & no Sb/Br); Manufacturer: Texas Instruments; PartNumber: TLV1572CD; # Input Channels: 1; Analog Voltage AV/DD(Max)(V): 5.5; Analog Voltage AV/DD(Min)(V): 2.7; Architecture: SAR; ENOB(Bits): 9.35; Interface: Serial SPI; Resolution(Bits): 10; Sample Rate (max)(SPS): 1.25M; SFDR(dB): 62; SINAD(dB): 58; SubFamily: Precision ADC (<=10MSPS); DatasheetVersion: SLAS171A; PackageVersion: 4040047-3/M, 06/2011; PackageReference: D8; PackageDescription: 8-Pin Plastic Small Outline, Body 4.9 x 3.9 mm, Pitch 1.27 mm; Supplier 1: Mouser; Supplier Part Number 1: 595-V62/09626-01YE; Digital Supply(Max)(V): 5.5; Digital Supply(Min)(V): 2.7; Eco-Plan: Green (RoHS & no Sb/Br); INL(Max)(+/-LSB): 1; Mounting Technology: Surface Mount; Code_JEDEC: MS-012; ComponentLink1Description: Manufacturer URL; ComponentLink1URL: http://www.ti.com/; ComponentLink2Description: Datasheet; ComponentLink2URL: http://www.ti.com/general/docs/lit/getliterature.tsp?genericPartNumber=TLV1572&fileType=pdf; ComponentLink3Description: Package Specification; ComponentLink3URL: http://www.ti.com/litv/pdf/msoi002j
footprint TI-D8_N (SOIC, 8-Leads, Body 4.9x3.9mm, Pitch 1.27mm, IPC Medium Density)
footprint TI-D8_L (SOIC, 8-Leads, Body 4.9x3.9mm, Pitch 1.27mm, IPC High Density)
footprint TI-D8_M (SOIC, 8-Leads, Body 4.9x3.9mm, Pitch 1.27mm, IPC Low Density)
pins: 1 ~{CS}/POWERDOWN (in) "Chip Select. A low on this input enables the TLV1572. A high disables the device and disconnects the power to the TLV1572.", 2 VREF (in) "Reference voltage input. The voltage applied to this pin defines the input span of the TLV1572.", 3 GND (power) "Ground", 4 AIN (in) "Analog input", 5 SCLK (in) "Serial clock input. This clock synchronizes the serial data transfer and is also used for internal data conversion.", 6 VCC (power) "Power supply, recommend connection to analog supply", 7 FS (in) "Frame sync input in DSP mode. The falling edge of the frame sync pulse from DSP indicates the start of a serial data frame shifted out of the TLV1572. The FS input is tied to VCC when interfacing to a micro-controller.", 8 DO (hiz) "Serial data output. A/D conversion results are provided at this output pin."

## TLV1572CDG4
designator U?
10-Bit, 1.25 MSPS ADC Single Channel, DSP / (Q)SPI IF, S&H, Very Low Power, Auto Power Down, 0 to 70 degC, 8-pin SOIC (D8), Green (RoHS & no Sb/Br); Manufacturer: Texas Instruments; PartNumber: TLV1572CDG4; # Input Channels: 1; Analog Voltage AV/DD(Max)(V): 5.5; Analog Voltage AV/DD(Min)(V): 2.7; Architecture: SAR; ENOB(Bits): 9.35; Interface: Serial SPI; Resolution(Bits): 10; Sample Rate (max)(SPS): 1.25M; SFDR(dB): 62; SINAD(dB): 58; SubFamily: Precision ADC (<=10MSPS); DatasheetVersion: SLAS171A; PackageVersion: 4040047-3/M, 06/2011; PackageReference: D8; PackageDescription: 8-Pin Plastic Small Outline, Body 4.9 x 3.9 mm, Pitch 1.27 mm; Supplier 1: Mouser; Supplier Part Number 1: 595-V62/09626-02XE; Digital Supply(Max)(V): 5.5; Digital Supply(Min)(V): 2.7; Eco-Plan: Green (RoHS & no Sb/Br); INL(Max)(+/-LSB): 1; Mounting Technology: Surface Mount; Code_JEDEC: MS-012; ComponentLink1Description: Manufacturer URL; ComponentLink1URL: http://www.ti.com/; ComponentLink2Description: Datasheet; ComponentLink2URL: http://www.ti.com/general/docs/lit/getliterature.tsp?genericPartNumber=TLV1572&fileType=pdf; ComponentLink3Description: Package Specification; ComponentLink3URL: http://www.ti.com/litv/pdf/msoi002j
footprint TI-D8_N (SOIC, 8-Leads, Body 4.9x3.9mm, Pitch 1.27mm, IPC Medium Density)
footprint TI-D8_L (SOIC, 8-Leads, Body 4.9x3.9mm, Pitch 1.27mm, IPC High Density)
footprint TI-D8_M (SOIC, 8-Leads, Body 4.9x3.9mm, Pitch 1.27mm, IPC Low Density)
pins: 1 ~{CS}/POWERDOWN (in) "Chip Select. A low on this input enables the TLV1572. A high disables the device and disconnects the power to the TLV1572.", 2 VREF (in) "Reference voltage input. The voltage applied to this pin defines the input span of the TLV1572.", 3 GND (power) "Ground", 4 AIN (in) "Analog input", 5 SCLK (in) "Serial clock input. This clock synchronizes the serial data transfer and is also used for internal data conversion.", 6 VCC (power) "Power supply, recommend connection to analog supply", 7 FS (in) "Frame sync input in DSP mode. The falling edge of the frame sync pulse from DSP indicates the start of a serial data frame shifted out of the TLV1572. The FS input is tied to VCC when interfacing to a micro-controller.", 8 DO (hiz) "Serial data output. A/D conversion results are provided at this output pin."

## TLV1572CDR
designator U?
10-Bit, 1.25 MSPS ADC Single Channel, DSP / (Q)SPI IF, S&H, Very Low Power, Auto Power Down, 0 to 70 degC, 8-pin SOIC (D8), Green (RoHS & no Sb/Br); Manufacturer: Texas Instruments; PartNumber: TLV1572CDR; # Input Channels: 1; Analog Voltage AV/DD(Max)(V): 5.5; Analog Voltage AV/DD(Min)(V): 2.7; Architecture: SAR; ENOB(Bits): 9.35; Interface: Serial SPI; Resolution(Bits): 10; Sample Rate (max)(SPS): 1.25M; SFDR(dB): 62; SINAD(dB): 58; SubFamily: Precision ADC (<=10MSPS); DatasheetVersion: SLAS171A; PackageVersion: 4040047-3/M, 06/2011; PackageReference: D8; PackageDescription: 8-Pin Plastic Small Outline, Body 4.9 x 3.9 mm, Pitch 1.27 mm; Supplier 1: Mouser; Supplier Part Number 1: 595-V62/09626-02YE; Digital Supply(Max)(V): 5.5; Digital Supply(Min)(V): 2.7; Eco-Plan: Green (RoHS & no Sb/Br); INL(Max)(+/-LSB): 1; Mounting Technology: Surface Mount; Code_JEDEC: MS-012; ComponentLink1Description: Manufacturer URL; ComponentLink1URL: http://www.ti.com/; ComponentLink2Description: Datasheet; ComponentLink2URL: http://www.ti.com/general/docs/lit/getliterature.tsp?genericPartNumber=TLV1572&fileType=pdf; ComponentLink3Description: Package Specification; ComponentLink3URL: http://www.ti.com/litv/pdf/msoi002j
footprint TI-D8_N (SOIC, 8-Leads, Body 4.9x3.9mm, Pitch 1.27mm, IPC Medium Density)
footprint TI-D8_L (SOIC, 8-Leads, Body 4.9x3.9mm, Pitch 1.27mm, IPC High Density)
footprint TI-D8_M (SOIC, 8-Leads, Body 4.9x3.9mm, Pitch 1.27mm, IPC Low Density)
pins: 1 ~{CS}/POWERDOWN (in) "Chip Select. A low on this input enables the TLV1572. A high disables the device and disconnects the power to the TLV1572.", 2 VREF (in) "Reference voltage input. The voltage applied to this pin defines the input span of the TLV1572.", 3 GND (power) "Ground", 4 AIN (in) "Analog input", 5 SCLK (in) "Serial clock input. This clock synchronizes the serial data transfer and is also used for internal data conversion.", 6 VCC (power) "Power supply, recommend connection to analog supply", 7 FS (in) "Frame sync input in DSP mode. The falling edge of the frame sync pulse from DSP indicates the start of a serial data frame shifted out of the TLV1572. The FS input is tied to VCC when interfacing to a micro-controller.", 8 DO (hiz) "Serial data output. A/D conversion results are provided at this output pin."

## TLV1572CDRG4
designator U?
10-Bit, 1.25 MSPS ADC Single Channel, DSP / (Q)SPI IF, S&H, Very Low Power, Auto Power Down, 0 to 70 degC, 8-pin SOIC (D8), Green (RoHS & no Sb/Br); Manufacturer: Texas Instruments; PartNumber: TLV1572CDRG4; # Input Channels: 1; Analog Voltage AV/DD(Max)(V): 5.5; Analog Voltage AV/DD(Min)(V): 2.7; Architecture: SAR; ENOB(Bits): 9.35; Interface: Serial SPI; Resolution(Bits): 10; Sample Rate (max)(SPS): 1.25M; SFDR(dB): 62; SINAD(dB): 58; SubFamily: Precision ADC (<=10MSPS); DatasheetVersion: SLAS171A; PackageVersion: 4040047-3/M, 06/2011; PackageReference: D8; PackageDescription: 8-Pin Plastic Small Outline, Body 4.9 x 3.9 mm, Pitch 1.27 mm; Supplier 1: Mouser; Supplier Part Number 1: N/A; Digital Supply(Max)(V): 5.5; Digital Supply(Min)(V): 2.7; Eco-Plan: Green (RoHS & no Sb/Br); INL(Max)(+/-LSB): 1; Mounting Technology: Surface Mount; Code_JEDEC: MS-012; ComponentLink1Description: Manufacturer URL; ComponentLink1URL: http://www.ti.com/; ComponentLink2Description: Datasheet; ComponentLink2URL: http://www.ti.com/general/docs/lit/getliterature.tsp?genericPartNumber=TLV1572&fileType=pdf; ComponentLink3Description: Package Specification; ComponentLink3URL: http://www.ti.com/litv/pdf/msoi002j
footprint TI-D8_N (SOIC, 8-Leads, Body 4.9x3.9mm, Pitch 1.27mm, IPC Medium Density)
footprint TI-D8_L (SOIC, 8-Leads, Body 4.9x3.9mm, Pitch 1.27mm, IPC High Density)
footprint TI-D8_M (SOIC, 8-Leads, Body 4.9x3.9mm, Pitch 1.27mm, IPC Low Density)
pins: 1 ~{CS}/POWERDOWN (in) "Chip Select. A low on this input enables the TLV1572. A high disables the device and disconnects the power to the TLV1572.", 2 VREF (in) "Reference voltage input. The voltage applied to this pin defines the input span of the TLV1572.", 3 GND (power) "Ground", 4 AIN (in) "Analog input", 5 SCLK (in) "Serial clock input. This clock synchronizes the serial data transfer and is also used for internal data conversion.", 6 VCC (power) "Power supply, recommend connection to analog supply", 7 FS (in) "Frame sync input in DSP mode. The falling edge of the frame sync pulse from DSP indicates the start of a serial data frame shifted out of the TLV1572. The FS input is tied to VCC when interfacing to a micro-controller.", 8 DO (hiz) "Serial data output. A/D conversion results are provided at this output pin."

## TLV1572ID
designator U?
10-Bit, 1.25 MSPS ADC Single Channel, DSP / (Q)SPI IF, S&H, Very Low Power, Auto Power Down, -40 to 85 degC, 8-pin SOIC (D8), Green (RoHS & no Sb/Br); Manufacturer: Texas Instruments; PartNumber: TLV1572ID; # Input Channels: 1; Analog Voltage AV/DD(Max)(V): 5.5; Analog Voltage AV/DD(Min)(V): 2.7; Architecture: SAR; ENOB(Bits): 9.35; Interface: Serial SPI; Resolution(Bits): 10; Sample Rate (max)(SPS): 1.25M; SFDR(dB): 62; SINAD(dB): 58; SubFamily: Precision ADC (<=10MSPS); DatasheetVersion: SLAS171A; PackageVersion: 4040047-3/M, 06/2011; PackageReference: D8; PackageDescription: 8-Pin Plastic Small Outline, Body 4.9 x 3.9 mm, Pitch 1.27 mm; Supplier 1: Mouser; Supplier Part Number 1: N/A; Digital Supply(Max)(V): 5.5; Digital Supply(Min)(V): 2.7; Eco-Plan: Green (RoHS & no Sb/Br); INL(Max)(+/-LSB): 1; Mounting Technology: Surface Mount; Code_JEDEC: MS-012; ComponentLink1Description: Manufacturer URL; ComponentLink1URL: http://www.ti.com/; ComponentLink2Description: Datasheet; ComponentLink2URL: http://www.ti.com/general/docs/lit/getliterature.tsp?genericPartNumber=TLV1572&fileType=pdf; ComponentLink3Description: Package Specification; ComponentLink3URL: http://www.ti.com/litv/pdf/msoi002j
footprint TI-D8_N (SOIC, 8-Leads, Body 4.9x3.9mm, Pitch 1.27mm, IPC Medium Density)
footprint TI-D8_L (SOIC, 8-Leads, Body 4.9x3.9mm, Pitch 1.27mm, IPC High Density)
footprint TI-D8_M (SOIC, 8-Leads, Body 4.9x3.9mm, Pitch 1.27mm, IPC Low Density)
pins: 1 ~{CS}/POWERDOWN (in) "Chip Select. A low on this input enables the TLV1572. A high disables the device and disconnects the power to the TLV1572.", 2 VREF (in) "Reference voltage input. The voltage applied to this pin defines the input span of the TLV1572.", 3 GND (power) "Ground", 4 AIN (in) "Analog input", 5 SCLK (in) "Serial clock input. This clock synchronizes the serial data transfer and is also used for internal data conversion.", 6 VCC (power) "Power supply, recommend connection to analog supply", 7 FS (in) "Frame sync input in DSP mode. The falling edge of the frame sync pulse from DSP indicates the start of a serial data frame shifted out of the TLV1572. The FS input is tied to VCC when interfacing to a micro-controller.", 8 DO (hiz) "Serial data output. A/D conversion results are provided at this output pin."

## TLV1572IDG4
designator U?
10-Bit, 1.25 MSPS ADC Single Channel, DSP / (Q)SPI IF, S&H, Very Low Power, Auto Power Down, -40 to 85 degC, 8-pin SOIC (D8), Green (RoHS & no Sb/Br); Manufacturer: Texas Instruments; PartNumber: TLV1572IDG4; # Input Channels: 1; Analog Voltage AV/DD(Max)(V): 5.5; Analog Voltage AV/DD(Min)(V): 2.7; Architecture: SAR; ENOB(Bits): 9.35; Interface: Serial SPI; Resolution(Bits): 10; Sample Rate (max)(SPS): 1.25M; SFDR(dB): 62; SINAD(dB): 58; SubFamily: Precision ADC (<=10MSPS); DatasheetVersion: SLAS171A; PackageVersion: 4040047-3/M, 06/2011; PackageReference: D8; PackageDescription: 8-Pin Plastic Small Outline, Body 4.9 x 3.9 mm, Pitch 1.27 mm; Supplier 1: Digi-Key; Supplier Part Number 1: ADS8201IRGER-ND; Supplier 2: Mouser; Supplier Part Number 2: 595-ADS8201IRGER; Digital Supply(Max)(V): 5.5; Digital Supply(Min)(V): 2.7; Eco-Plan: Green (RoHS & no Sb/Br); INL(Max)(+/-LSB): 1; Mounting Technology: Surface Mount; Code_JEDEC: MS-012; ComponentLink1Description: Manufacturer URL; ComponentLink1URL: http://www.ti.com/; ComponentLink2Description: Datasheet; ComponentLink2URL: http://www.ti.com/general/docs/lit/getliterature.tsp?genericPartNumber=TLV1572&fileType=pdf; ComponentLink3Description: Package Specification; ComponentLink3URL: http://www.ti.com/litv/pdf/msoi002j
footprint TI-D8_N (SOIC, 8-Leads, Body 4.9x3.9mm, Pitch 1.27mm, IPC Medium Density)
footprint TI-D8_L (SOIC, 8-Leads, Body 4.9x3.9mm, Pitch 1.27mm, IPC High Density)
footprint TI-D8_M (SOIC, 8-Leads, Body 4.9x3.9mm, Pitch 1.27mm, IPC Low Density)
pins: 1 ~{CS}/POWERDOWN (in) "Chip Select. A low on this input enables the TLV1572. A high disables the device and disconnects the power to the TLV1572.", 2 VREF (in) "Reference voltage input. The voltage applied to this pin defines the input span of the TLV1572.", 3 GND (power) "Ground", 4 AIN (in) "Analog input", 5 SCLK (in) "Serial clock input. This clock synchronizes the serial data transfer and is also used for internal data conversion.", 6 VCC (power) "Power supply, recommend connection to analog supply", 7 FS (in) "Frame sync input in DSP mode. The falling edge of the frame sync pulse from DSP indicates the start of a serial data frame shifted out of the TLV1572. The FS input is tied to VCC when interfacing to a micro-controller.", 8 DO (hiz) "Serial data output. A/D conversion results are provided at this output pin."

## TLV1572IDR
designator U?
10-Bit, 1.25 MSPS ADC Single Channel, DSP / (Q)SPI IF, S&H, Very Low Power, Auto Power Down, -40 to 85 degC, 8-pin SOIC (D8), Green (RoHS & no Sb/Br); Manufacturer: Texas Instruments; PartNumber: TLV1572IDR; # Input Channels: 1; Analog Voltage AV/DD(Max)(V): 5.5; Analog Voltage AV/DD(Min)(V): 2.7; Architecture: SAR; ENOB(Bits): 9.35; Interface: Serial SPI; Resolution(Bits): 10; Sample Rate (max)(SPS): 1.25M; SFDR(dB): 62; SINAD(dB): 58; SubFamily: Precision ADC (<=10MSPS); DatasheetVersion: SLAS171A; PackageVersion: 4040047-3/M, 06/2011; PackageReference: D8; PackageDescription: 8-Pin Plastic Small Outline, Body 4.9 x 3.9 mm, Pitch 1.27 mm; Supplier 1: Digi-Key; Supplier Part Number 1: 296-25443-2-ND; Supplier 2: Digi-Key; Supplier Part Number 2: 296-25443-1-ND; Supplier 3: Digi-Key; Supplier Part Number 3: 296-25443-6-ND; Supplier 4: Newark; Supplier Part Number 4: 52R7927; Supplier 5: Mouser; Supplier Part Number 5: 595-ADS8201IRGET; Digital Supply(Max)(V): 5.5; Digital Supply(Min)(V): 2.7; Eco-Plan: Green (RoHS & no Sb/Br); INL(Max)(+/-LSB): 1; Mounting Technology: Surface Mount; Code_JEDEC: MS-012; ComponentLink1Description: Manufacturer URL; ComponentLink1URL: http://www.ti.com/; ComponentLink2Description: Datasheet; ComponentLink2URL: http://www.ti.com/general/docs/lit/getliterature.tsp?genericPartNumber=TLV1572&fileType=pdf; ComponentLink3Description: Package Specification; ComponentLink3URL: http://www.ti.com/litv/pdf/msoi002j
footprint TI-D8_N (SOIC, 8-Leads, Body 4.9x3.9mm, Pitch 1.27mm, IPC Medium Density)
footprint TI-D8_L (SOIC, 8-Leads, Body 4.9x3.9mm, Pitch 1.27mm, IPC High Density)
footprint TI-D8_M (SOIC, 8-Leads, Body 4.9x3.9mm, Pitch 1.27mm, IPC Low Density)
pins: 1 ~{CS}/POWERDOWN (in) "Chip Select. A low on this input enables the TLV1572. A high disables the device and disconnects the power to the TLV1572.", 2 VREF (in) "Reference voltage input. The voltage applied to this pin defines the input span of the TLV1572.", 3 GND (power) "Ground", 4 AIN (in) "Analog input", 5 SCLK (in) "Serial clock input. This clock synchronizes the serial data transfer and is also used for internal data conversion.", 6 VCC (power) "Power supply, recommend connection to analog supply", 7 FS (in) "Frame sync input in DSP mode. The falling edge of the frame sync pulse from DSP indicates the start of a serial data frame shifted out of the TLV1572. The FS input is tied to VCC when interfacing to a micro-controller.", 8 DO (hiz) "Serial data output. A/D conversion results are provided at this output pin."